# EAGLE library part CJMCU-1220 (library ipas)
CJMCU-1220 ADS1220 module
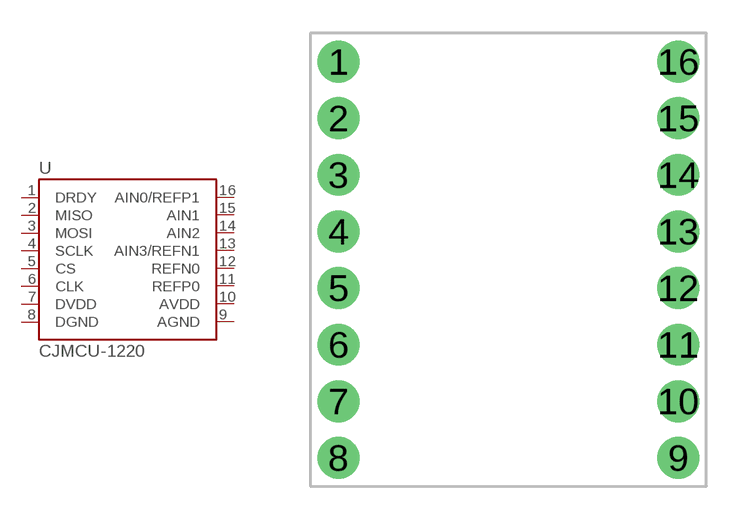
[diagram p47: symbol with the pads of CJMCU-1220; footprint CJMCU-1220]

Designator prefix U

## CJMCU-1220  [CJMCU-1220]
1  DRDY
2  MISO
3  MOSI
4  SCLK
5  CS
6  CLK
7  DVDD
8  DGND
9  AGND
10  AVDD
11  REFP0
12  REFN0
13  AIN3/REFN1
14  AIN2
15  AIN1
16  AIN0/REFP1

## Footprint CJMCU-1220 (pad centres in mm)
drill 1.016 pad 1.88: 1 -7.62,11.43; 2 -7.62,8.89; 3 -7.62,6.35; 4 -7.62,3.81; 5 -7.62,1.27; 6 -7.62,-1.27; 7 -7.62,-3.81; 8 -7.62,-6.35; 9 7.62,-6.35; 10 7.62,-3.81; 11 7.62,-1.27; 12 7.62,1.27; 13 7.62,3.81; 14 7.62,6.35; 15 7.62,8.89; 16 7.62,11.43